# Altium schematic symbol library U_BD5xxxG_volt_supervisor.SchLib: 1 symbol
Pins are listed as number, name and electrical type; pins without a type are passive.

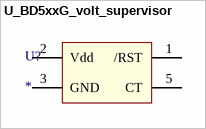
[diagram p0: symbol U_BD5xxG_volt_supervisor]

## U_BD5xxG_volt_supervisor
designator U?
pins: 1 /RST, 2 Vdd, 3 GND, 5 CT